# Altium schematic symbol library CeleronLib_Module.SchLib: 1 symbol
Pins are listed as number, name and electrical type; pins without a type are passive.

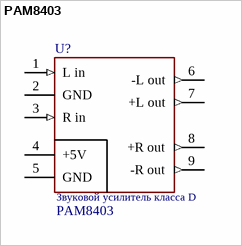
[diagram p0: symbol PAM8403]

## PAM8403
designator U?, comment Device: PAM8403  Name: Звуковой усилитель класса D  (hidden comment: Модуль  PAM8403 (Звуковой усилитель класса D))
Усилитель звука PAM8403 (2 канала по 3W, питание 5V, класс D); Voltage: 2,5 .. 5V; ComponentLink1Description: Сайт производителя; ComponentLink2URL: http://www.diodes.com/_files/datasheets/PAM8403.pdf; ComponentLink2Description: Datasheet; ComponentLink1URL: http://www.diodes.com/; Family: Модуль; ComponentLink3Description: Где купить?; ComponentLink3URL: http://voron.ua/catalog/021889
footprint PAM8403 (Усилитель PAM8403 2х 3W 5V (миниатюрный усилитель класса D))
pins: 1 L in (in), 2 GND (power), 3 R in (in), 4 +5V (power), 5 GND (power), 6 -L out (out), 7 +L out (out), 8 +R out (out), 9 -R out (out)